# EAGLE library part TPS2116DRLR_LCSC (library lcsc_parts)
Description: 2 Channel 2.5A SOT-583 Manufacturer: TI MPN: TPS2116DRLR LCSC Part: C3235557 Category: Power Distribution Switches, Load Drivers Datasheet: https://www.ti.com/cn/lit/ds/symlink/tps2116.pdf
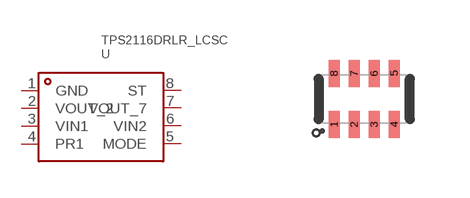
[diagram p18: symbol with the pads of SOT-583-8_L2.1-W1.6-P0.50-LS1.6-BL; footprint SOT-583-8_L2.1-W1.6-P0.50-LS1.6-BL]

Designator prefix U

## TPS2116DRLR_LCSC (CATEGORY: Power Distribution Switches, Load Drivers; DATASHEET: https://www.ti.com/cn/lit/ds/symlink/tps2116.pdf; DESCRIPTION: 2 Channel 2.5A SOT-583; FEATURES: Operating status indication; LCSC_PART: C3235557; LCSC_STOCK: 3452; MANUFACTURER: TI; MPN: TPS2116DRLR; OPERATING_TEMPERATURE: -40℃~+105℃; OUTPUT_CURRENT: 2.5A; OUTPUT_VOLTAGE: 0V~5.5V; PARTNO: TPS2116DRLR; PRICING_1000: $0.2376/unit @ 1000; PRICING_50: $0.3043/unit @ 50)  [SOT-583-8_L2.1-W1.6-P0.50-LS1.6-BL]
1  GND
2  VOUT_2
3  VIN1
4  PR1
5  MODE
6  VIN2
7  VOUT_7
8  ST

## Footprint SOT-583-8_L2.1-W1.6-P0.50-LS1.6-BL (pad centres in mm)
smd 0.28 x 0.68: 1 -0.75,-0.64; 2 -0.25,-0.64; 3 0.25,-0.64; 4 0.75,-0.64; 5 0.75,0.64; 6 0.25,0.64; 7 -0.25,0.64; 8 -0.75,0.64